# EAGLE library part NLAS4599 (library aarf)
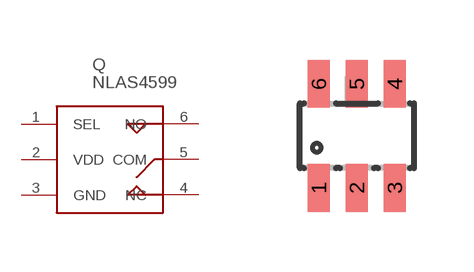
[diagram p8: symbol with the pads of SOT23-6; footprint SOT23-6]

Designator prefix Q

## NLAS4599  [SOT23-6]
1  SEL  in
2  VDD  pwr
3  GND  pwr
4  NC
5  COM
6  NO

## Footprint SOT23-6 (pad centres in mm)
smd 0.55 x 1.2: 1 -0.95,-1.3; 2 0,-1.3; 3 0.95,-1.3; 4 0.95,1.3; 5 0,1.3; 6 -0.95,1.3